# Altium footprint library SOIC127P602X173-8N.PcbLib: 1 footprints
Each footprint in its own frame and in the unit in brackets; x right, y up, seen from the top. Pads: shape width x height; smd on the part's side, far side on the other; paste and mask are expansions set on the pad; w line width, h text height; cw(c..) or ccw(c..) is an arc to the next point about the centre after c.
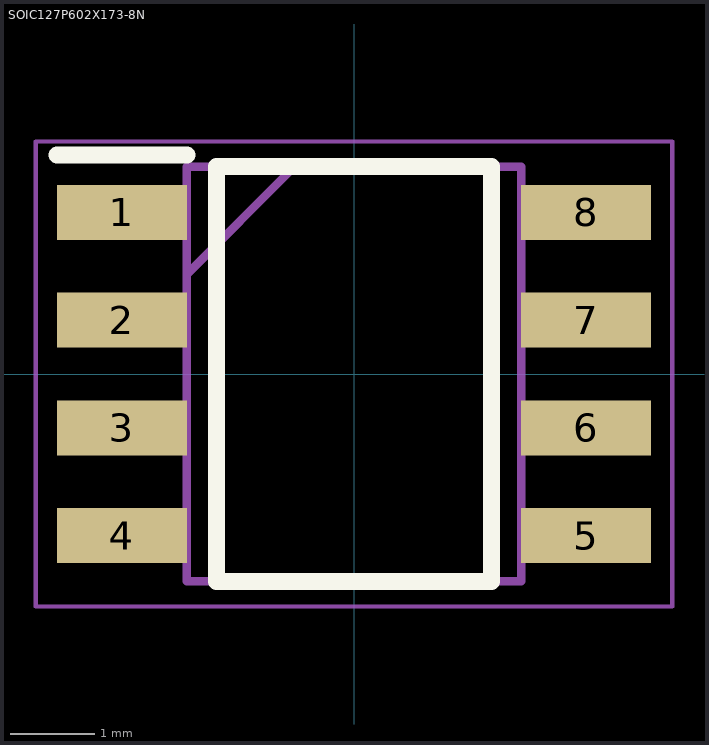
[diagram p0: the footprint, top view; thin cyan lines are the x and y axes]

## SOIC127P602X173-8N [mm]
pads (8):
  rect 1.53x0.65 smd: 1(-2.735,1.905) 2(-2.735,0.635) 3(-2.735,-0.635) 4(-2.735,-1.905) 5(2.735,-1.905) 6(2.735,-0.635) 7(2.735,0.635) 8(2.735,1.905)
Top Overlay:
  lines w0.2: -3.5,2.58 -1.97,2.58 ; -1.62,-2.445 1.62,-2.445 1.62,2.445 -1.62,2.445 -1.62,-2.445
Mechanical 15:
  lines w0.1: -1.97,1.175 -0.7,2.445 ; -1.97,-2.445 1.97,-2.445 1.97,2.445 -1.97,2.445 -1.97,-2.445
Mechanical 20:
  lines w0.05: -3.75,-2.74 3.75,-2.74 3.75,2.74 -3.75,2.74 -3.75,-2.74